# EAGLE library part PINHD5X2 (library rlc)
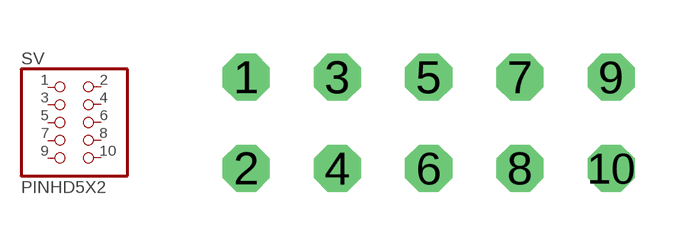
[diagram p3: symbol with the pads of HOLES5X2; footprint HOLES5X2]

Designator prefix SV

## PINHD5X2  [HOLES5X2]
1  1  pas
2  2  pas
3  3  pas
4  4  pas
5  5  pas
6  6  pas
7  7  pas
8  8  pas
9  9  pas
10  10  pas

## Footprint HOLES5X2 (pad centres in mm)
drill 0.8 octagon: 1 -5.08,1.27; 2 -5.08,-1.27; 3 -2.54,1.27; 4 -2.54,-1.27; 5 0,1.27; 6 0,-1.27; 7 2.54,1.27; 8 2.54,-1.27; 9 5.08,1.27; 10 5.08,-1.27